# Altium integrated library Altium_WCAP-CSGP (rev19a).IntLib: 938 symbols (part 15 of 16)
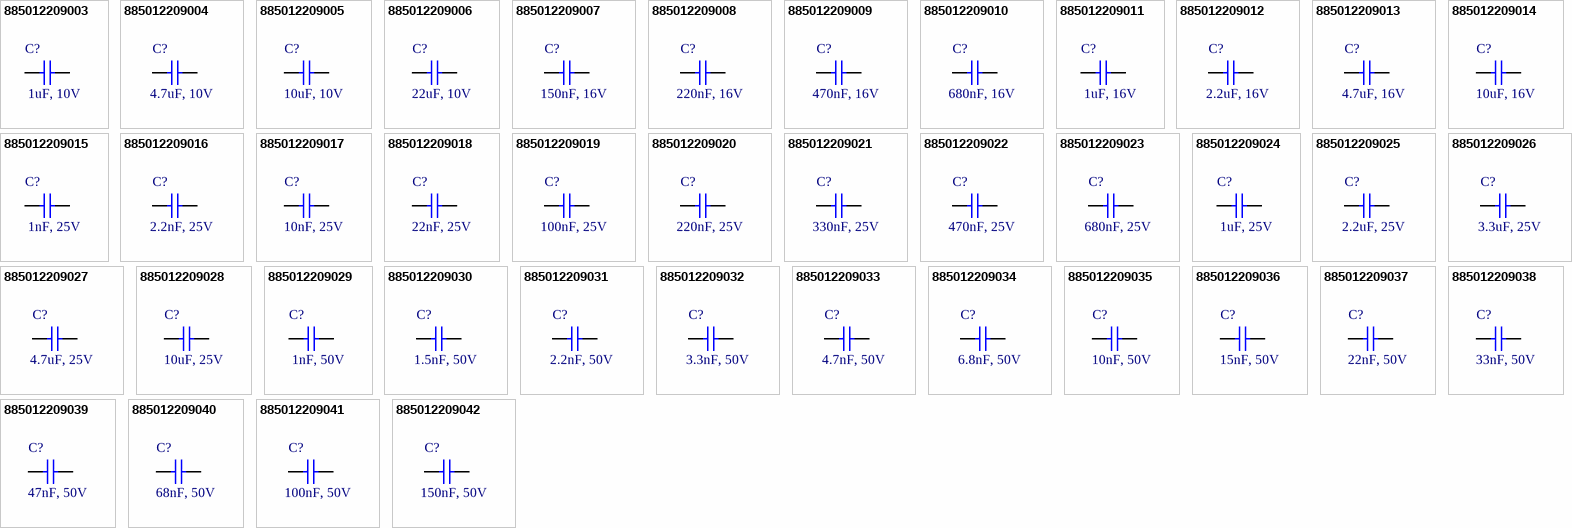
[diagram p41: symbols 885012209003 to 885012209042]

## 885012209025
designator C?, comment 2.2uF, 25V
WCAP-CSGP General Purpose Ceramic Capacitors, size 1210, 2.2uF, +/-10%, 25VDC; Part Number: 885012209025; Isolation Resistance: >=0.2GOhm; Ceramic Type: X7R; Technical Reference: X7R1210225K025DFCT10000; ComponentLink1Description: Manufacturer; ComponentLink1URL: http://www.we-online.de; ComponentLink2Description: Datasheet; ComponentLink2URL: https://katalog.we-online.com/pbs/datasheet/885012209025.pdf; Operating Temperature: -55 to +125degC; Packaging: Tape and Reel; Publisher: Wurth Elektronik; Rated Voltage: 25VDC; Published Date: August 2019; Capacitance Tolerance: +/-10%; Dissipation Factor: =<3.5%; Height: 1.6mm +/-0.20mm; Mounting Technology: SMD; Size: 1210; Capacitance: 2.2uF
footprint WCAP-CSGP_1210_H=1.6mm
pins: 1, 2

## 885012209026
designator C?, comment 3.3uF, 25V
WCAP-CSGP General Purpose Ceramic Capacitors, size 1210, 3.3uF, +/-10%, 25VDC; Part Number: 885012209026; Isolation Resistance: >=0.2GOhm; Ceramic Type: X7R; Technical Reference: X7R1210335K025DFCT10000; ComponentLink1Description: Manufacturer; ComponentLink1URL: http://www.we-online.de; ComponentLink2Description: Datasheet; ComponentLink2URL: https://katalog.we-online.com/pbs/datasheet/885012209026.pdf; Operating Temperature: -55 to +125degC; Packaging: Tape and Reel; Publisher: Wurth Elektronik; Rated Voltage: 25VDC; Published Date: August 2019; Capacitance Tolerance: +/-10%; Dissipation Factor: =<3.5%; Height: 1.6mm +/-0.20mm; Mounting Technology: SMD; Size: 1210; Capacitance: 3.3uF
footprint WCAP-CSGP_1210_H=1.6mm
pins: 1, 2

## 885012209027
designator C?, comment 4.7uF, 25V
WCAP-CSGP General Purpose Ceramic Capacitors, size 1210, 4.7uF, +/-10%, 25VDC; Part Number: 885012209027; Isolation Resistance: >=0.1GOhm; Ceramic Type: X7R; Technical Reference: X7R1210475K025DFCT10000; ComponentLink1Description: Manufacturer; ComponentLink1URL: http://www.we-online.de; ComponentLink2Description: Datasheet; ComponentLink2URL: https://katalog.we-online.com/pbs/datasheet/885012209027.pdf; Operating Temperature: -55 to +125degC; Packaging: Tape and Reel; Publisher: Wurth Elektronik; Rated Voltage: 25VDC; Published Date: August 2019; Capacitance Tolerance: +/-10%; Dissipation Factor: =<3.5%; Height: 2mm +/-0.20mm; Mounting Technology: SMD; Size: 1210; Capacitance: 4.7uF
footprint WCAP-CSGP_1210_H=2mm
pins: 1, 2

## 885012209028
designator C?, comment 10uF, 25V
WCAP-CSGP General Purpose Ceramic Capacitors, size 1210, 10uF, +/-10%, 25VDC; Part Number: 885012209028; Isolation Resistance: >=0.01GOhm; Ceramic Type: X7R; Technical Reference: X7R1210106K025DFCT10000; ComponentLink1Description: Manufacturer; ComponentLink1URL: http://www.we-online.de; ComponentLink2Description: Datasheet; ComponentLink2URL: https://katalog.we-online.com/pbs/datasheet/885012209028.pdf; Operating Temperature: -55 to +125degC; Packaging: Tape and Reel; Publisher: Wurth Elektronik; Rated Voltage: 25VDC; Published Date: August 2019; Capacitance Tolerance: +/-10%; Dissipation Factor: =<5%; Height: 2mm +/-0.20mm; Mounting Technology: SMD; Size: 1210; Capacitance: 10uF
footprint WCAP-CSGP_1210_H=2mm
pins: 1, 2

## 885012209029
designator C?, comment 1nF, 50V
WCAP-CSGP General Purpose Ceramic Capacitors, size 1210, 1nF, +/-10%, 50VDC; Part Number: 885012209029; Isolation Resistance: >=10GOhm; Ceramic Type: X7R; Technical Reference: X7R1210102K050DFCT10000; ComponentLink1Description: Manufacturer; ComponentLink1URL: http://www.we-online.de; ComponentLink2Description: Datasheet; ComponentLink2URL: https://katalog.we-online.com/pbs/datasheet/885012209029.pdf; Operating Temperature: -55 to +125degC; Packaging: Tape and Reel; Publisher: Wurth Elektronik; Rated Voltage: 50VDC; Published Date: August 2019; Capacitance Tolerance: +/-10%; Dissipation Factor: =<2.5%; Height: 0.95mm +/-0.10mm; Mounting Technology: SMD; Size: 1210; Capacitance: 1nF
footprint WCAP-CSGP_1210_H=0.95mm
pins: 1, 2

## 885012209030
designator C?, comment 1.5nF, 50V
WCAP-CSGP General Purpose Ceramic Capacitors, size 1210, 1.5nF, +/-10%, 50VDC; Part Number: 885012209030; Isolation Resistance: >=10GOhm; Ceramic Type: X7R; Technical Reference: X7R1210152K050DFCT10000; ComponentLink1Description: Manufacturer; ComponentLink1URL: http://www.we-online.de; ComponentLink2Description: Datasheet; ComponentLink2URL: https://katalog.we-online.com/pbs/datasheet/885012209030.pdf; Operating Temperature: -55 to +125degC; Packaging: Tape and Reel; Publisher: Wurth Elektronik; Rated Voltage: 50VDC; Published Date: August 2019; Capacitance Tolerance: +/-10%; Dissipation Factor: =<2.5%; Height: 0.95mm +/-0.10mm; Mounting Technology: SMD; Size: 1210; Capacitance: 1.5nF
footprint WCAP-CSGP_1210_H=0.95mm
pins: 1, 2

## 885012209031
designator C?, comment 2.2nF, 50V
WCAP-CSGP General Purpose Ceramic Capacitors, size 1210, 2.2nF, +/-10%, 50VDC; Part Number: 885012209031; Isolation Resistance: >=10GOhm; Ceramic Type: X7R; Technical Reference: X7R1210222K050DFCT10000; ComponentLink1Description: Manufacturer; ComponentLink1URL: http://www.we-online.de; ComponentLink2Description: Datasheet; ComponentLink2URL: https://katalog.we-online.com/pbs/datasheet/885012209031.pdf; Operating Temperature: -55 to +125degC; Packaging: Tape and Reel; Publisher: Wurth Elektronik; Rated Voltage: 50VDC; Published Date: August 2019; Capacitance Tolerance: +/-10%; Dissipation Factor: =<2.5%; Height: 0.95mm +/-0.10mm; Mounting Technology: SMD; Size: 1210; Capacitance: 2.2nF
footprint WCAP-CSGP_1210_H=0.95mm
pins: 1, 2

## 885012209032
designator C?, comment 3.3nF, 50V
WCAP-CSGP General Purpose Ceramic Capacitors, size 1210, 3.3nF, +/-10%, 50VDC; Part Number: 885012209032; Isolation Resistance: >=10GOhm; Ceramic Type: X7R; Technical Reference: X7R1210332K050DFCT10000; ComponentLink1Description: Manufacturer; ComponentLink1URL: http://www.we-online.de; ComponentLink2Description: Datasheet; ComponentLink2URL: https://katalog.we-online.com/pbs/datasheet/885012209032.pdf; Operating Temperature: -55 to +125degC; Packaging: Tape and Reel; Publisher: Wurth Elektronik; Rated Voltage: 50VDC; Published Date: August 2019; Capacitance Tolerance: +/-10%; Dissipation Factor: =<2.5%; Height: 0.95mm +/-0.10mm; Mounting Technology: SMD; Size: 1210; Capacitance: 3.3nF
footprint WCAP-CSGP_1210_H=0.95mm
pins: 1, 2

## 885012209033
designator C?, comment 4.7nF, 50V
WCAP-CSGP General Purpose Ceramic Capacitors, size 1210, 4.7nF, +/-10%, 50VDC; Part Number: 885012209033; Isolation Resistance: >=10GOhm; Ceramic Type: X7R; Technical Reference: X7R1210472K050DFCT10000; ComponentLink1Description: Manufacturer; ComponentLink1URL: http://www.we-online.de; ComponentLink2Description: Datasheet; ComponentLink2URL: https://katalog.we-online.com/pbs/datasheet/885012209033.pdf; Operating Temperature: -55 to +125degC; Packaging: Tape and Reel; Publisher: Wurth Elektronik; Rated Voltage: 50VDC; Published Date: August 2019; Capacitance Tolerance: +/-10%; Dissipation Factor: =<2.5%; Height: 0.95mm +/-0.10mm; Mounting Technology: SMD; Size: 1210; Capacitance: 4.7nF
footprint WCAP-CSGP_1210_H=0.95mm
pins: 1, 2

## 885012209034
designator C?, comment 6.8nF, 50V
WCAP-CSGP General Purpose Ceramic Capacitors, size 1210, 6.8nF, +/-10%, 50VDC; Part Number: 885012209034; Isolation Resistance: >=10GOhm; Ceramic Type: X7R; Technical Reference: X7R1210682K050DFCT10000; ComponentLink1Description: Manufacturer; ComponentLink1URL: http://www.we-online.de; ComponentLink2Description: Datasheet; ComponentLink2URL: https://katalog.we-online.com/pbs/datasheet/885012209034.pdf; Operating Temperature: -55 to +125degC; Packaging: Tape and Reel; Publisher: Wurth Elektronik; Rated Voltage: 50VDC; Published Date: August 2019; Capacitance Tolerance: +/-10%; Dissipation Factor: =<2.5%; Height: 0.95mm +/-0.10mm; Mounting Technology: SMD; Size: 1210; Capacitance: 6.8nF
footprint WCAP-CSGP_1210_H=0.95mm
pins: 1, 2

## 885012209035
designator C?, comment 10nF, 50V
WCAP-CSGP General Purpose Ceramic Capacitors, size 1210, 10nF, +/-10%, 50VDC; Part Number: 885012209035; Isolation Resistance: >=10GOhm; Ceramic Type: X7R; Technical Reference: X7R1210103K050DFCT10000; ComponentLink1Description: Manufacturer; ComponentLink1URL: http://www.we-online.de; ComponentLink2Description: Datasheet; ComponentLink2URL: https://katalog.we-online.com/pbs/datasheet/885012209035.pdf; Operating Temperature: -55 to +125degC; Packaging: Tape and Reel; Publisher: Wurth Elektronik; Rated Voltage: 50VDC; Published Date: August 2019; Capacitance Tolerance: +/-10%; Dissipation Factor: =<2.5%; Height: 0.95mm +/-0.10mm; Mounting Technology: SMD; Size: 1210; Capacitance: 10nF
footprint WCAP-CSGP_1210_H=0.95mm
pins: 1, 2

## 885012209036
designator C?, comment 15nF, 50V
WCAP-CSGP General Purpose Ceramic Capacitors, size 1210, 15nF, +/-10%, 50VDC; Part Number: 885012209036; Isolation Resistance: >=10GOhm; Ceramic Type: X7R; Technical Reference: X7R1210153K050DFCT10000; ComponentLink1Description: Manufacturer; ComponentLink1URL: http://www.we-online.de; ComponentLink2Description: Datasheet; ComponentLink2URL: https://katalog.we-online.com/pbs/datasheet/885012209036.pdf; Operating Temperature: -55 to +125degC; Packaging: Tape and Reel; Publisher: Wurth Elektronik; Rated Voltage: 50VDC; Published Date: August 2019; Capacitance Tolerance: +/-10%; Dissipation Factor: =<2.5%; Height: 0.95mm +/-0.10mm; Mounting Technology: SMD; Size: 1210; Capacitance: 15nF
footprint WCAP-CSGP_1210_H=0.95mm
pins: 1, 2

## 885012209037
designator C?, comment 22nF, 50V
WCAP-CSGP General Purpose Ceramic Capacitors, size 1210, 22nF, +/-10%, 50VDC; Part Number: 885012209037; Isolation Resistance: >=10GOhm; Ceramic Type: X7R; Technical Reference: X7R1210223K050DFCT10000; ComponentLink1Description: Manufacturer; ComponentLink1URL: http://www.we-online.de; ComponentLink2Description: Datasheet; ComponentLink2URL: https://katalog.we-online.com/pbs/datasheet/885012209037.pdf; Operating Temperature: -55 to +125degC; Packaging: Tape and Reel; Publisher: Wurth Elektronik; Rated Voltage: 50VDC; Published Date: August 2019; Capacitance Tolerance: +/-10%; Dissipation Factor: =<2.5%; Height: 0.95mm +/-0.10mm; Mounting Technology: SMD; Size: 1210; Capacitance: 22nF
footprint WCAP-CSGP_1210_H=0.95mm
pins: 1, 2

## 885012209038
designator C?, comment 33nF, 50V
WCAP-CSGP General Purpose Ceramic Capacitors, size 1210, 33nF, +/-10%, 50VDC; Part Number: 885012209038; Isolation Resistance: >=10GOhm; Ceramic Type: X7R; Technical Reference: X7R1210333K050DFCT10000; ComponentLink1Description: Manufacturer; ComponentLink1URL: http://www.we-online.de; ComponentLink2Description: Datasheet; ComponentLink2URL: https://katalog.we-online.com/pbs/datasheet/885012209038.pdf; Operating Temperature: -55 to +125degC; Packaging: Tape and Reel; Publisher: Wurth Elektronik; Rated Voltage: 50VDC; Published Date: August 2019; Capacitance Tolerance: +/-10%; Dissipation Factor: =<2.5%; Height: 0.95mm +/-0.10mm; Mounting Technology: SMD; Size: 1210; Capacitance: 33nF
footprint WCAP-CSGP_1210_H=0.95mm
pins: 1, 2

## 885012209039
designator C?, comment 47nF, 50V
WCAP-CSGP General Purpose Ceramic Capacitors, size 1210, 47nF, +/-10%, 50VDC; Part Number: 885012209039; Isolation Resistance: >=10GOhm; Ceramic Type: X7R; Technical Reference: X7R1210473K050DFCT10000; ComponentLink1Description: Manufacturer; ComponentLink1URL: http://www.we-online.de; ComponentLink2Description: Datasheet; ComponentLink2URL: https://katalog.we-online.com/pbs/datasheet/885012209039.pdf; Operating Temperature: -55 to +125degC; Packaging: Tape and Reel; Publisher: Wurth Elektronik; Rated Voltage: 50VDC; Published Date: August 2019; Capacitance Tolerance: +/-10%; Dissipation Factor: =<2.5%; Height: 0.95mm +/-0.10mm; Mounting Technology: SMD; Size: 1210; Capacitance: 47nF
footprint WCAP-CSGP_1210_H=0.95mm
pins: 1, 2

## 885012209040
designator C?, comment 68nF, 50V
WCAP-CSGP General Purpose Ceramic Capacitors, size 1210, 68nF, +/-10%, 50VDC; Part Number: 885012209040; Isolation Resistance: >=7.4GOhm; Ceramic Type: X7R; Technical Reference: X7R1210683K050DFCT10000; ComponentLink1Description: Manufacturer; ComponentLink1URL: http://www.we-online.de; ComponentLink2Description: Datasheet; ComponentLink2URL: https://katalog.we-online.com/pbs/datasheet/885012209040.pdf; Operating Temperature: -55 to +125degC; Packaging: Tape and Reel; Publisher: Wurth Elektronik; Rated Voltage: 50VDC; Published Date: August 2019; Capacitance Tolerance: +/-10%; Dissipation Factor: =<2.5%; Height: 0.95mm +/-0.10mm; Mounting Technology: SMD; Size: 1210; Capacitance: 68nF
footprint WCAP-CSGP_1210_H=0.95mm
pins: 1, 2

## 885012209041
designator C?, comment 100nF, 50V
WCAP-CSGP General Purpose Ceramic Capacitors, size 1210, 100nF, +/-10%, 50VDC; Part Number: 885012209041; Isolation Resistance: >=5GOhm; Ceramic Type: X7R; Technical Reference: X7R1210104K050DFCT10000; ComponentLink1Description: Manufacturer; ComponentLink1URL: http://www.we-online.de; ComponentLink2Description: Datasheet; ComponentLink2URL: https://katalog.we-online.com/pbs/datasheet/885012209041.pdf; Operating Temperature: -55 to +125degC; Packaging: Tape and Reel; Publisher: Wurth Elektronik; Rated Voltage: 50VDC; Published Date: August 2019; Capacitance Tolerance: +/-10%; Dissipation Factor: =<2.5%; Height: 0.95mm +/-0.10mm; Mounting Technology: SMD; Size: 1210; Capacitance: 100nF
footprint WCAP-CSGP_1210_H=0.95mm
pins: 1, 2

## 885012209042
designator C?, comment 150nF, 50V
WCAP-CSGP General Purpose Ceramic Capacitors, size 1210, 150nF, +/-10%, 50VDC; Part Number: 885012209042; Isolation Resistance: >=3.3GOhm; Ceramic Type: X7R; Technical Reference: X7R1210154K050DFCT10000; ComponentLink1Description: Manufacturer; ComponentLink1URL: http://www.we-online.de; ComponentLink2Description: Datasheet; ComponentLink2URL: https://katalog.we-online.com/pbs/datasheet/885012209042.pdf; Operating Temperature: -55 to +125degC; Packaging: Tape and Reel; Publisher: Wurth Elektronik; Rated Voltage: 50VDC; Published Date: August 2019; Capacitance Tolerance: +/-10%; Dissipation Factor: =<2.5%; Height: 0.95mm +/-0.10mm; Mounting Technology: SMD; Size: 1210; Capacitance: 150nF
footprint WCAP-CSGP_1210_H=0.95mm
pins: 1, 2

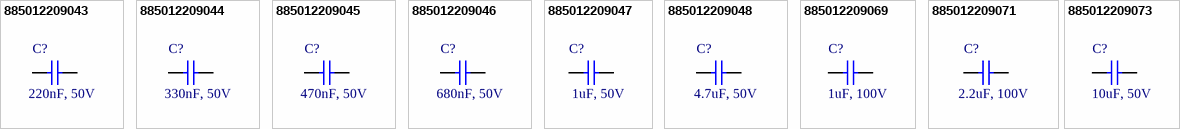
[diagram p25: symbols 885012209043 to 885012209073]

## 885012209043
designator C?, comment 220nF, 50V
WCAP-CSGP General Purpose Ceramic Capacitors, size 1210, 220nF, +/-10%, 50VDC; Part Number: 885012209043; Isolation Resistance: >=2.3GOhm; Ceramic Type: X7R; Technical Reference: X7R1210224K050DFCT10000; ComponentLink1Description: Manufacturer; ComponentLink1URL: http://www.we-online.de; ComponentLink2Description: Datasheet; ComponentLink2URL: https://katalog.we-online.com/pbs/datasheet/885012209043.pdf; Operating Temperature: -55 to +125degC; Packaging: Tape and Reel; Publisher: Wurth Elektronik; Rated Voltage: 50VDC; Published Date: August 2019; Capacitance Tolerance: +/-10%; Dissipation Factor: =<2.5%; Height: 0.95mm +/-0.10mm; Mounting Technology: SMD; Size: 1210; Capacitance: 220nF
footprint WCAP-CSGP_1210_H=0.95mm
pins: 1, 2

## 885012209044
designator C?, comment 330nF, 50V
WCAP-CSGP General Purpose Ceramic Capacitors, size 1210, 330nF, +/-10%, 50VDC; Part Number: 885012209044; Isolation Resistance: >=1.5GOhm; Ceramic Type: X7R; Technical Reference: X7R1210334K050DFCT10000; ComponentLink1Description: Manufacturer; ComponentLink1URL: http://www.we-online.de; ComponentLink2Description: Datasheet; ComponentLink2URL: https://katalog.we-online.com/pbs/datasheet/885012209044.pdf; Operating Temperature: -55 to +125degC; Packaging: Tape and Reel; Publisher: Wurth Elektronik; Rated Voltage: 50VDC; Published Date: August 2019; Capacitance Tolerance: +/-10%; Dissipation Factor: =<2.5%; Height: 1.25mm +/-0.10mm; Mounting Technology: SMD; Size: 1210; Capacitance: 330nF
footprint WCAP-CSGP_1210_H=1.25mm
pins: 1, 2

## 885012209045
designator C?, comment 470nF, 50V
WCAP-CSGP General Purpose Ceramic Capacitors, size 1210, 470nF, +/-10%, 50VDC; Part Number: 885012209045; Isolation Resistance: >=1.1GOhm; Ceramic Type: X7R; Technical Reference: X7R1210474K050DFCT10000; ComponentLink1Description: Manufacturer; ComponentLink1URL: http://www.we-online.de; ComponentLink2Description: Datasheet; ComponentLink2URL: https://katalog.we-online.com/pbs/datasheet/885012209045.pdf; Operating Temperature: -55 to +125degC; Packaging: Tape and Reel; Publisher: Wurth Elektronik; Rated Voltage: 50VDC; Published Date: August 2019; Capacitance Tolerance: +/-10%; Dissipation Factor: =<2.5%; Height: 1.25mm +/-0.10mm; Mounting Technology: SMD; Size: 1210; Capacitance: 470nF
footprint WCAP-CSGP_1210_H=1.25mm
pins: 1, 2

## 885012209046
designator C?, comment 680nF, 50V
WCAP-CSGP General Purpose Ceramic Capacitors, size 1210, 680nF, +/-10%, 50VDC; Part Number: 885012209046; Isolation Resistance: >=0.7GOhm; Ceramic Type: X7R; Technical Reference: X7R1210684K050DFCT10000; ComponentLink1Description: Manufacturer; ComponentLink1URL: http://www.we-online.de; ComponentLink2Description: Datasheet; ComponentLink2URL: https://katalog.we-online.com/pbs/datasheet/885012209046.pdf; Operating Temperature: -55 to +125degC; Packaging: Tape and Reel; Publisher: Wurth Elektronik; Rated Voltage: 50VDC; Published Date: August 2019; Capacitance Tolerance: +/-10%; Dissipation Factor: =<2.5%; Height: 1.25mm +/-0.10mm; Mounting Technology: SMD; Size: 1210; Capacitance: 680nF
footprint WCAP-CSGP_1210_H=1.25mm
pins: 1, 2

## 885012209047
designator C?, comment 1uF, 50V
WCAP-CSGP General Purpose Ceramic Capacitors, size 1210, 1uF, +/-10%, 50VDC; Part Number: 885012209047; Isolation Resistance: >=0.5GOhm; Ceramic Type: X7R; Technical Reference: X7R1210105K050DFCT10000; ComponentLink1Description: Manufacturer; ComponentLink1URL: http://www.we-online.de; ComponentLink2Description: Datasheet; ComponentLink2URL: https://katalog.we-online.com/pbs/datasheet/885012209047.pdf; Operating Temperature: -55 to +125degC; Packaging: Tape and Reel; Publisher: Wurth Elektronik; Rated Voltage: 50VDC; Published Date: August 2019; Capacitance Tolerance: +/-10%; Dissipation Factor: =<2.5%; Height: 1.25mm +/-0.10mm; Mounting Technology: SMD; Size: 1210; Capacitance: 1uF
footprint WCAP-CSGP_1210_H=1.25mm
pins: 1, 2

## 885012209048
designator C?, comment 4.7uF, 50V
WCAP-CSGP General Purpose Ceramic Capacitors, size 1210, 4.7uF, +/-10%, 50VDC; Part Number: 885012209048; Isolation Resistance: >=0.02GOhm; Ceramic Type: X7R; Technical Reference: X7R1210475K050DFCT10000; ComponentLink1Description: Manufacturer; ComponentLink1URL: http://www.we-online.de; ComponentLink2Description: Datasheet; ComponentLink2URL: https://katalog.we-online.com/pbs/datasheet/885012209048.pdf; Operating Temperature: -55 to +125degC; Packaging: Tape and Reel; Publisher: Wurth Elektronik; Rated Voltage: 50VDC; Published Date: August 2019; Capacitance Tolerance: +/-10%; Dissipation Factor: =<5%; Height: 2.5mm +/-0.20mm; Mounting Technology: SMD; Size: 1210; Capacitance: 4.7uF
footprint WCAP-CSGP_1210_H=2.5mm
pins: 1, 2

## 885012209069
designator C?, comment 1uF, 100V
WCAP-CSGP General Purpose Ceramic Capacitors, size 1210, 1uF, +/-10%, 100VDC; Part Number: 885012209069; Isolation Resistance: >=0.1GOhm; Ceramic Type: X7R; Technical Reference: X7R1210105K100DFCT10000; ComponentLink1Description: Manufacturer; ComponentLink1URL: http://www.we-online.de; ComponentLink2Description: Datasheet; ComponentLink2URL: https://katalog.we-online.com/pbs/datasheet/885012209069.pdf; Operating Temperature: -55 to +125degC; Packaging: Tape and Reel; Publisher: Wurth Elektronik; Rated Voltage: 100VDC; Published Date: August 2019; Capacitance Tolerance: +/-10%; Dissipation Factor: =<2.5%; Height: 2mm +/-0.20mm; Mounting Technology: SMD; Size: 1210; Capacitance: 1uF
footprint WCAP-CSGP_1210_H=2mm
pins: 1, 2

## 885012209071
designator C?, comment 2.2uF, 100V
WCAP-CSGP General Purpose Ceramic Capacitors, size 1210, 2.2uF, +/-10%, 100VDC; Part Number: 885012209071; Isolation Resistance: >=0.05GOhm; Ceramic Type: X7R; Technical Reference: X7R1210225K100DFCT10000; ComponentLink1Description: Manufacturer; ComponentLink1URL: http://www.we-online.de; ComponentLink2Description: Datasheet; ComponentLink2URL: https://katalog.we-online.com/pbs/datasheet/885012209071.pdf; Operating Temperature: -55 to +125degC; Packaging: Tape and Reel; Publisher: Wurth Elektronik; Rated Voltage: 100VDC; Published Date: August 2019; Capacitance Tolerance: +/-10%; Dissipation Factor: =<5%; Height: 2.5mm +/-0.30mm; Mounting Technology: SMD; Size: 1210; Capacitance: 2.2uF
footprint WCAP-CSGP_1210_H=2.5mm
pins: 1, 2

## 885012209073
designator C?, comment 10uF, 50V
WCAP-CSGP General Purpose Ceramic Capacitors, size 1210, 10uF, +/-10%, 50VDC; Part Number: 885012209073; Isolation Resistance: >=0.01GOhm; Ceramic Type: X7R; Technical Reference: X7R1210106K050DFCT10000; ComponentLink1Description: Manufacturer; ComponentLink1URL: http://www.we-online.de; ComponentLink2Description: Datasheet; ComponentLink2URL: https://katalog.we-online.com/pbs/datasheet/885012209073.pdf; Operating Temperature: -55 to +125degC; Packaging: Tape and Reel; Publisher: Wurth Elektronik; Rated Voltage: 50VDC; Published Date: August 2019; Capacitance Tolerance: +/-10%; Dissipation Factor: =<10%; Height: 2.5mm +/-0.30mm; Mounting Technology: SMD; Size: 1210; Capacitance: 10uF
footprint WCAP-CSGP_1210_H=2.5mm
pins: 1, 2


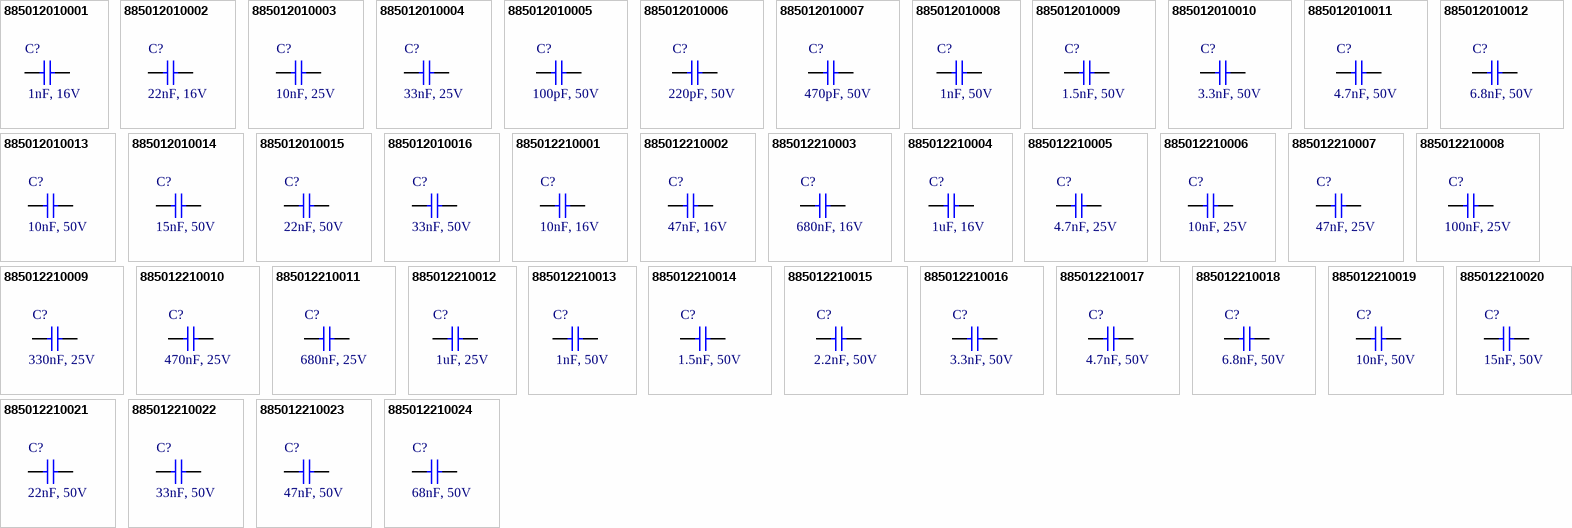
[diagram p26: symbols 885012010001 to 885012210024]

## 885012010001
designator C?, comment 1nF, 16V
WCAP-CSGP General Purpose Ceramic Capacitors, size 1812, 1nF, +/-5%, 16VDC; Part Number: 885012010001; Isolation Resistance: >=10GOhm; Ceramic Type: NP0; Dissipation Factor: Q>=1000; Technical Reference: NP01812102J016DFCT10000; ComponentLink1Description: Manufacturer; ComponentLink1URL: http://www.we-online.de; ComponentLink2Description: Datasheet; ComponentLink2URL: https://katalog.we-online.com/pbs/datasheet/885012010001.pdf; Operating Temperature: -55 to +125degC; Packaging: Tape and Reel; Publisher: Wurth Elektronik; Rated Voltage: 16VDC; Published Date: August 2019; Capacitance Tolerance: +/-5%; Height: 1.25mm +/-0.10mm; Mounting Technology: SMD; Size: 1812; Capacitance: 1nF
footprint WCAP-CSGP_1812_H=1.25mm
pins: 1, 2

## 885012010002
designator C?, comment 22nF, 16V
WCAP-CSGP General Purpose Ceramic Capacitors, size 1812, 22nF, +/-5%, 16VDC; Part Number: 885012010002; Isolation Resistance: >=10GOhm; Ceramic Type: NP0; Dissipation Factor: Q>=1000; Technical Reference: NP01812223J016DFCT10000; ComponentLink1Description: Manufacturer; ComponentLink1URL: http://www.we-online.de; ComponentLink2Description: Datasheet; ComponentLink2URL: https://katalog.we-online.com/pbs/datasheet/885012010002.pdf; Operating Temperature: -55 to +125degC; Packaging: Tape and Reel; Publisher: Wurth Elektronik; Rated Voltage: 16VDC; Published Date: August 2019; Capacitance Tolerance: +/-5%; Height: 1.25mm +/-0.10mm; Mounting Technology: SMD; Size: 1812; Capacitance: 22nF
footprint WCAP-CSGP_1812_H=1.25mm
pins: 1, 2

## 885012010003
designator C?, comment 10nF, 25V
WCAP-CSGP General Purpose Ceramic Capacitors, size 1812, 10nF, +/-5%, 25VDC; Part Number: 885012010003; Isolation Resistance: >=10GOhm; Ceramic Type: NP0; Dissipation Factor: Q>=1000; Technical Reference: NP01812103J025DFCT10000; ComponentLink1Description: Manufacturer; ComponentLink1URL: http://www.we-online.de; ComponentLink2Description: Datasheet; ComponentLink2URL: https://katalog.we-online.com/pbs/datasheet/885012010003.pdf; Operating Temperature: -55 to +125degC; Packaging: Tape and Reel; Publisher: Wurth Elektronik; Rated Voltage: 25VDC; Published Date: August 2019; Capacitance Tolerance: +/-5%; Height: 1.25mm +/-0.10mm; Mounting Technology: SMD; Size: 1812; Capacitance: 10nF
footprint WCAP-CSGP_1812_H=1.25mm
pins: 1, 2

## 885012010004
designator C?, comment 33nF, 25V
WCAP-CSGP General Purpose Ceramic Capacitors, size 1812, 33nF, +/-5%, 25VDC; Part Number: 885012010004; Isolation Resistance: >=10GOhm; Ceramic Type: NP0; Dissipation Factor: Q>=1000; Technical Reference: NP01812333J025DFCT10000; ComponentLink1Description: Manufacturer; ComponentLink1URL: http://www.we-online.de; ComponentLink2Description: Datasheet; ComponentLink2URL: https://katalog.we-online.com/pbs/datasheet/885012010004.pdf; Operating Temperature: -55 to +125degC; Packaging: Tape and Reel; Publisher: Wurth Elektronik; Rated Voltage: 25VDC; Published Date: August 2019; Capacitance Tolerance: +/-5%; Height: 1.25mm +/-0.10mm; Mounting Technology: SMD; Size: 1812; Capacitance: 33nF
footprint WCAP-CSGP_1812_H=1.25mm
pins: 1, 2

## 885012010005
designator C?, comment 100pF, 50V
WCAP-CSGP General Purpose Ceramic Capacitors, size 1812, 100pF, +/-5%, 50VDC; Part Number: 885012010005; Isolation Resistance: >=10GOhm; Ceramic Type: NP0; Dissipation Factor: Q>=1000; Technical Reference: NP01812101J050DFCT10000; ComponentLink1Description: Manufacturer; ComponentLink1URL: http://www.we-online.de; ComponentLink2Description: Datasheet; ComponentLink2URL: https://katalog.we-online.com/pbs/datasheet/885012010005.pdf; Operating Temperature: -55 to +125degC; Packaging: Tape and Reel; Publisher: Wurth Elektronik; Rated Voltage: 50VDC; Published Date: August 2019; Capacitance Tolerance: +/-5%; Height: 1.25mm +/-0.10mm; Mounting Technology: SMD; Size: 1812; Capacitance: 100pF
footprint WCAP-CSGP_1812_H=1.25mm
pins: 1, 2

## 885012010006
designator C?, comment 220pF, 50V
WCAP-CSGP General Purpose Ceramic Capacitors, size 1812, 220pF, +/-5%, 50VDC; Part Number: 885012010006; Isolation Resistance: >=10GOhm; Ceramic Type: NP0; Dissipation Factor: Q>=1000; Technical Reference: NP01812221J050DFCT10000; ComponentLink1Description: Manufacturer; ComponentLink1URL: http://www.we-online.de; ComponentLink2Description: Datasheet; ComponentLink2URL: https://katalog.we-online.com/pbs/datasheet/885012010006.pdf; Operating Temperature: -55 to +125degC; Packaging: Tape and Reel; Publisher: Wurth Elektronik; Rated Voltage: 50VDC; Published Date: August 2019; Capacitance Tolerance: +/-5%; Height: 1.25mm +/-0.10mm; Mounting Technology: SMD; Size: 1812; Capacitance: 220pF
footprint WCAP-CSGP_1812_H=1.25mm
pins: 1, 2

## 885012010007
designator C?, comment 470pF, 50V
WCAP-CSGP General Purpose Ceramic Capacitors, size 1812, 470pF, +/-5%, 50VDC; Part Number: 885012010007; Isolation Resistance: >=10GOhm; Ceramic Type: NP0; Dissipation Factor: Q>=1000; Technical Reference: NP01812471J050DFCT10000; ComponentLink1Description: Manufacturer; ComponentLink1URL: http://www.we-online.de; ComponentLink2Description: Datasheet; ComponentLink2URL: https://katalog.we-online.com/pbs/datasheet/885012010007.pdf; Operating Temperature: -55 to +125degC; Packaging: Tape and Reel; Publisher: Wurth Elektronik; Rated Voltage: 50VDC; Published Date: August 2019; Capacitance Tolerance: +/-5%; Height: 1.25mm +/-0.10mm; Mounting Technology: SMD; Size: 1812; Capacitance: 470pF
footprint WCAP-CSGP_1812_H=1.25mm
pins: 1, 2

## 885012010008
designator C?, comment 1nF, 50V
WCAP-CSGP General Purpose Ceramic Capacitors, size 1812, 1nF, +/-5%, 50VDC; Part Number: 885012010008; Isolation Resistance: >=10GOhm; Ceramic Type: NP0; Dissipation Factor: Q>=1000; Technical Reference: NP01812102J050DFCT10000; ComponentLink1Description: Manufacturer; ComponentLink1URL: http://www.we-online.de; ComponentLink2Description: Datasheet; ComponentLink2URL: https://katalog.we-online.com/pbs/datasheet/885012010008.pdf; Operating Temperature: -55 to +125degC; Packaging: Tape and Reel; Publisher: Wurth Elektronik; Rated Voltage: 50VDC; Published Date: August 2019; Capacitance Tolerance: +/-5%; Height: 1.25mm +/-0.10mm; Mounting Technology: SMD; Size: 1812; Capacitance: 1nF
footprint WCAP-CSGP_1812_H=1.25mm
pins: 1, 2

## 885012010009
designator C?, comment 1.5nF, 50V
WCAP-CSGP General Purpose Ceramic Capacitors, size 1812, 1.5nF, +/-5%, 50VDC; Part Number: 885012010009; Isolation Resistance: >=10GOhm; Ceramic Type: NP0; Dissipation Factor: Q>=1000; Technical Reference: NP01812152J050DFCT10000; ComponentLink1Description: Manufacturer; ComponentLink1URL: http://www.we-online.de; ComponentLink2Description: Datasheet; ComponentLink2URL: https://katalog.we-online.com/pbs/datasheet/885012010009.pdf; Operating Temperature: -55 to +125degC; Packaging: Tape and Reel; Publisher: Wurth Elektronik; Rated Voltage: 50VDC; Published Date: August 2019; Capacitance Tolerance: +/-5%; Height: 1.25mm +/-0.10mm; Mounting Technology: SMD; Size: 1812; Capacitance: 1.5nF
footprint WCAP-CSGP_1812_H=1.25mm
pins: 1, 2

## 885012010010
designator C?, comment 3.3nF, 50V
WCAP-CSGP General Purpose Ceramic Capacitors, size 1812, 3.3nF, +/-5%, 50VDC; Part Number: 885012010010; Isolation Resistance: >=10GOhm; Ceramic Type: NP0; Dissipation Factor: Q>=1000; Technical Reference: NP01812332J050DFCT10000; ComponentLink1Description: Manufacturer; ComponentLink1URL: http://www.we-online.de; ComponentLink2Description: Datasheet; ComponentLink2URL: https://katalog.we-online.com/pbs/datasheet/885012010010.pdf; Operating Temperature: -55 to +125degC; Packaging: Tape and Reel; Publisher: Wurth Elektronik; Rated Voltage: 50VDC; Published Date: August 2019; Capacitance Tolerance: +/-5%; Height: 1.25mm +/-0.10mm; Mounting Technology: SMD; Size: 1812; Capacitance: 3.3nF
footprint WCAP-CSGP_1812_H=1.25mm
pins: 1, 2

## 885012010011
designator C?, comment 4.7nF, 50V
WCAP-CSGP General Purpose Ceramic Capacitors, size 1812, 4.7nF, +/-5%, 50VDC; Part Number: 885012010011; Isolation Resistance: >=10GOhm; Ceramic Type: NP0; Dissipation Factor: Q>=1000; Technical Reference: NP01812472J050DFCT10000; ComponentLink1Description: Manufacturer; ComponentLink1URL: http://www.we-online.de; ComponentLink2Description: Datasheet; ComponentLink2URL: https://katalog.we-online.com/pbs/datasheet/885012010011.pdf; Operating Temperature: -55 to +125degC; Packaging: Tape and Reel; Publisher: Wurth Elektronik; Rated Voltage: 50VDC; Published Date: August 2019; Capacitance Tolerance: +/-5%; Height: 1.25mm +/-0.10mm; Mounting Technology: SMD; Size: 1812; Capacitance: 4.7nF
footprint WCAP-CSGP_1812_H=1.25mm
pins: 1, 2

## 885012010012
designator C?, comment 6.8nF, 50V
WCAP-CSGP General Purpose Ceramic Capacitors, size 1812, 6.8nF, +/-5%, 50VDC; Part Number: 885012010012; Isolation Resistance: >=10GOhm; Ceramic Type: NP0; Dissipation Factor: Q>=1000; Technical Reference: NP01812682J050DFCT10000; ComponentLink1Description: Manufacturer; ComponentLink1URL: http://www.we-online.de; ComponentLink2Description: Datasheet; ComponentLink2URL: https://katalog.we-online.com/pbs/datasheet/885012010012.pdf; Operating Temperature: -55 to +125degC; Packaging: Tape and Reel; Publisher: Wurth Elektronik; Rated Voltage: 50VDC; Published Date: August 2019; Capacitance Tolerance: +/-5%; Height: 1.25mm +/-0.10mm; Mounting Technology: SMD; Size: 1812; Capacitance: 6.8nF
footprint WCAP-CSGP_1812_H=1.25mm
pins: 1, 2

## 885012010013
designator C?, comment 10nF, 50V
WCAP-CSGP General Purpose Ceramic Capacitors, size 1812, 10nF, +/-5%, 50VDC; Part Number: 885012010013; Isolation Resistance: >=10GOhm; Ceramic Type: NP0; Dissipation Factor: Q>=1000; Technical Reference: NP01812103J050DFCT10000; ComponentLink1Description: Manufacturer; ComponentLink1URL: http://www.we-online.de; ComponentLink2Description: Datasheet; ComponentLink2URL: https://katalog.we-online.com/pbs/datasheet/885012010013.pdf; Operating Temperature: -55 to +125degC; Packaging: Tape and Reel; Publisher: Wurth Elektronik; Rated Voltage: 50VDC; Published Date: August 2019; Capacitance Tolerance: +/-5%; Height: 1.25mm +/-0.10mm; Mounting Technology: SMD; Size: 1812; Capacitance: 10nF
footprint WCAP-CSGP_1812_H=1.25mm
pins: 1, 2

## 885012010014
designator C?, comment 15nF, 50V
WCAP-CSGP General Purpose Ceramic Capacitors, size 1812, 15nF, +/-5%, 50VDC; Part Number: 885012010014; Isolation Resistance: >=10GOhm; Ceramic Type: NP0; Dissipation Factor: Q>=1000; Technical Reference: NP01812153J050DFCT10000; ComponentLink1Description: Manufacturer; ComponentLink1URL: http://www.we-online.de; ComponentLink2Description: Datasheet; ComponentLink2URL: https://katalog.we-online.com/pbs/datasheet/885012010014.pdf; Operating Temperature: -55 to +125degC; Packaging: Tape and Reel; Publisher: Wurth Elektronik; Rated Voltage: 50VDC; Published Date: August 2019; Capacitance Tolerance: +/-5%; Height: 1.25mm +/-0.10mm; Mounting Technology: SMD; Size: 1812; Capacitance: 15nF
footprint WCAP-CSGP_1812_H=1.25mm
pins: 1, 2

## 885012010015
designator C?, comment 22nF, 50V
WCAP-CSGP General Purpose Ceramic Capacitors, size 1812, 22nF, +/-5%, 50VDC; Part Number: 885012010015; Isolation Resistance: >=10GOhm; Ceramic Type: NP0; Dissipation Factor: Q>=1000; Technical Reference: NP01812223J050DFCT10000; ComponentLink1Description: Manufacturer; ComponentLink1URL: http://www.we-online.de; ComponentLink2Description: Datasheet; ComponentLink2URL: https://katalog.we-online.com/pbs/datasheet/885012010015.pdf; Operating Temperature: -55 to +125degC; Packaging: Tape and Reel; Publisher: Wurth Elektronik; Rated Voltage: 50VDC; Published Date: August 2019; Capacitance Tolerance: +/-5%; Height: 1.25mm +/-0.10mm; Mounting Technology: SMD; Size: 1812; Capacitance: 22nF
footprint WCAP-CSGP_1812_H=1.25mm
pins: 1, 2

## 885012010016
designator C?, comment 33nF, 50V
WCAP-CSGP General Purpose Ceramic Capacitors, size 1812, 33nF, +/-5%, 50VDC; Part Number: 885012010016; Isolation Resistance: >=10GOhm; Ceramic Type: NP0; Dissipation Factor: Q>=1000; Technical Reference: NP01812333J050DFCT10000; ComponentLink1Description: Manufacturer; ComponentLink1URL: http://www.we-online.de; ComponentLink2Description: Datasheet; ComponentLink2URL: https://katalog.we-online.com/pbs/datasheet/885012010016.pdf; Operating Temperature: -55 to +125degC; Packaging: Tape and Reel; Publisher: Wurth Elektronik; Rated Voltage: 50VDC; Published Date: August 2019; Capacitance Tolerance: +/-5%; Height: 1.25mm +/-0.10mm; Mounting Technology: SMD; Size: 1812; Capacitance: 33nF
footprint WCAP-CSGP_1812_H=1.25mm
pins: 1, 2

## 885012210001
designator C?, comment 10nF, 16V
WCAP-CSGP General Purpose Ceramic Capacitors, size 1812, 10nF, +/-10%, 16VDC; Part Number: 885012210001; Isolation Resistance: >=10GOhm; Ceramic Type: X7R; Technical Reference: X7R1812103K016DFCT10000; ComponentLink1Description: Manufacturer; ComponentLink1URL: http://www.we-online.de; ComponentLink2Description: Datasheet; ComponentLink2URL: https://katalog.we-online.com/pbs/datasheet/885012210001.pdf; Operating Temperature: -55 to +125degC; Packaging: Tape and Reel; Publisher: Wurth Elektronik; Rated Voltage: 16VDC; Published Date: August 2019; Capacitance Tolerance: +/-10%; Dissipation Factor: =<3.5%; Height: 1.25mm +/-0.10mm; Mounting Technology: SMD; Size: 1812; Capacitance: 10nF
footprint WCAP-CSGP_1812_H=1.25mm
pins: 1, 2

## 885012210002
designator C?, comment 47nF, 16V
WCAP-CSGP General Purpose Ceramic Capacitors, size 1812, 47nF, +/-10%, 16VDC; Part Number: 885012210002; Isolation Resistance: >=10GOhm; Ceramic Type: X7R; Technical Reference: X7R1812473K016DFCT10000; ComponentLink1Description: Manufacturer; ComponentLink1URL: http://www.we-online.de; ComponentLink2Description: Datasheet; ComponentLink2URL: https://katalog.we-online.com/pbs/datasheet/885012210002.pdf; Operating Temperature: -55 to +125degC; Packaging: Tape and Reel; Publisher: Wurth Elektronik; Rated Voltage: 16VDC; Published Date: August 2019; Capacitance Tolerance: +/-10%; Dissipation Factor: =<3.5%; Height: 1.25mm +/-0.10mm; Mounting Technology: SMD; Size: 1812; Capacitance: 47nF
footprint WCAP-CSGP_1812_H=1.25mm
pins: 1, 2

## 885012210003
designator C?, comment 680nF, 16V
WCAP-CSGP General Purpose Ceramic Capacitors, size 1812, 680nF, +/-10%, 16VDC; Part Number: 885012210003; Isolation Resistance: >=0.7GOhm; Ceramic Type: X7R; Technical Reference: X7R1812684K016DFCT10000; ComponentLink1Description: Manufacturer; ComponentLink1URL: http://www.we-online.de; ComponentLink2Description: Datasheet; ComponentLink2URL: https://katalog.we-online.com/pbs/datasheet/885012210003.pdf; Operating Temperature: -55 to +125degC; Packaging: Tape and Reel; Publisher: Wurth Elektronik; Rated Voltage: 16VDC; Published Date: August 2019; Capacitance Tolerance: +/-10%; Dissipation Factor: =<3.5%; Height: 1.25mm +/-0.10mm; Mounting Technology: SMD; Size: 1812; Capacitance: 680nF
footprint WCAP-CSGP_1812_H=1.25mm
pins: 1, 2

## 885012210004
designator C?, comment 1uF, 16V
WCAP-CSGP General Purpose Ceramic Capacitors, size 1812, 1uF, +/-10%, 16VDC; Part Number: 885012210004; Isolation Resistance: >=0.5GOhm; Ceramic Type: X7R; Technical Reference: X7R1812105K016DFCT10000; ComponentLink1Description: Manufacturer; ComponentLink1URL: http://www.we-online.de; ComponentLink2Description: Datasheet; ComponentLink2URL: https://katalog.we-online.com/pbs/datasheet/885012210004.pdf; Operating Temperature: -55 to +125degC; Packaging: Tape and Reel; Publisher: Wurth Elektronik; Rated Voltage: 16VDC; Published Date: August 2019; Capacitance Tolerance: +/-10%; Dissipation Factor: =<3.5%; Height: 1.25mm +/-0.10mm; Mounting Technology: SMD; Size: 1812; Capacitance: 1uF
footprint WCAP-CSGP_1812_H=1.25mm
pins: 1, 2

## 885012210005
designator C?, comment 4.7nF, 25V
WCAP-CSGP General Purpose Ceramic Capacitors, size 1812, 4.7nF, +/-10%, 25VDC; Part Number: 885012210005; Isolation Resistance: >=10GOhm; Ceramic Type: X7R; Technical Reference: X7R1812472K025DFCT10000; ComponentLink1Description: Manufacturer; ComponentLink1URL: http://www.we-online.de; ComponentLink2Description: Datasheet; ComponentLink2URL: https://katalog.we-online.com/pbs/datasheet/885012210005.pdf; Operating Temperature: -55 to +125degC; Packaging: Tape and Reel; Publisher: Wurth Elektronik; Rated Voltage: 25VDC; Published Date: August 2019; Capacitance Tolerance: +/-10%; Dissipation Factor: =<3.5%; Height: 1.25mm +/-0.10mm; Mounting Technology: SMD; Size: 1812; Capacitance: 4.7nF
footprint WCAP-CSGP_1812_H=1.25mm
pins: 1, 2

## 885012210006
designator C?, comment 10nF, 25V
WCAP-CSGP General Purpose Ceramic Capacitors, size 1812, 10nF, +/-10%, 25VDC; Part Number: 885012210006; Isolation Resistance: >=10GOhm; Ceramic Type: X7R; Technical Reference: X7R1812103K025DFCT10000; ComponentLink1Description: Manufacturer; ComponentLink1URL: http://www.we-online.de; ComponentLink2Description: Datasheet; ComponentLink2URL: https://katalog.we-online.com/pbs/datasheet/885012210006.pdf; Operating Temperature: -55 to +125degC; Packaging: Tape and Reel; Publisher: Wurth Elektronik; Rated Voltage: 25VDC; Published Date: August 2019; Capacitance Tolerance: +/-10%; Dissipation Factor: =<3.5%; Height: 1.25mm +/-0.10mm; Mounting Technology: SMD; Size: 1812; Capacitance: 10nF
footprint WCAP-CSGP_1812_H=1.25mm
pins: 1, 2

## 885012210007
designator C?, comment 47nF, 25V
WCAP-CSGP General Purpose Ceramic Capacitors, size 1812, 47nF, +/-10%, 25VDC; Part Number: 885012210007; Isolation Resistance: >=10GOhm; Ceramic Type: X7R; Technical Reference: X7R1812473K025DFCT10000; ComponentLink1Description: Manufacturer; ComponentLink1URL: http://www.we-online.de; ComponentLink2Description: Datasheet; ComponentLink2URL: https://katalog.we-online.com/pbs/datasheet/885012210007.pdf; Operating Temperature: -55 to +125degC; Packaging: Tape and Reel; Publisher: Wurth Elektronik; Rated Voltage: 25VDC; Published Date: August 2019; Capacitance Tolerance: +/-10%; Dissipation Factor: =<3.5%; Height: 1.25mm +/-0.10mm; Mounting Technology: SMD; Size: 1812; Capacitance: 47nF
footprint WCAP-CSGP_1812_H=1.25mm
pins: 1, 2

## 885012210008
designator C?, comment 100nF, 25V
WCAP-CSGP General Purpose Ceramic Capacitors, size 1812, 100nF, +/-10%, 25VDC; Part Number: 885012210008; Isolation Resistance: >=5GOhm; Ceramic Type: X7R; Technical Reference: X7R1812104K025DFCT10000; ComponentLink1Description: Manufacturer; ComponentLink1URL: http://www.we-online.de; ComponentLink2Description: Datasheet; ComponentLink2URL: https://katalog.we-online.com/pbs/datasheet/885012210008.pdf; Operating Temperature: -55 to +125degC; Packaging: Tape and Reel; Publisher: Wurth Elektronik; Rated Voltage: 25VDC; Published Date: August 2019; Capacitance Tolerance: +/-10%; Dissipation Factor: =<3.5%; Height: 1.25mm +/-0.10mm; Mounting Technology: SMD; Size: 1812; Capacitance: 100nF
footprint WCAP-CSGP_1812_H=1.25mm
pins: 1, 2

## 885012210009
designator C?, comment 330nF, 25V
WCAP-CSGP General Purpose Ceramic Capacitors, size 1812, 330nF, +/-10%, 25VDC; Part Number: 885012210009; Isolation Resistance: >=1.5GOhm; Ceramic Type: X7R; Technical Reference: X7R1812334K025DFCT10000; ComponentLink1Description: Manufacturer; ComponentLink1URL: http://www.we-online.de; ComponentLink2Description: Datasheet; ComponentLink2URL: https://katalog.we-online.com/pbs/datasheet/885012210009.pdf; Operating Temperature: -55 to +125degC; Packaging: Tape and Reel; Publisher: Wurth Elektronik; Rated Voltage: 25VDC; Published Date: August 2019; Capacitance Tolerance: +/-10%; Dissipation Factor: =<3.5%; Height: 1.25mm +/-0.10mm; Mounting Technology: SMD; Size: 1812; Capacitance: 330nF
footprint WCAP-CSGP_1812_H=1.25mm
pins: 1, 2

## 885012210010
designator C?, comment 470nF, 25V
WCAP-CSGP General Purpose Ceramic Capacitors, size 1812, 470nF, +/-10%, 25VDC; Part Number: 885012210010; Isolation Resistance: >=1.1GOhm; Ceramic Type: X7R; Technical Reference: X7R1812474K025DFCT10000; ComponentLink1Description: Manufacturer; ComponentLink1URL: http://www.we-online.de; ComponentLink2Description: Datasheet; ComponentLink2URL: https://katalog.we-online.com/pbs/datasheet/885012210010.pdf; Operating Temperature: -55 to +125degC; Packaging: Tape and Reel; Publisher: Wurth Elektronik; Rated Voltage: 25VDC; Published Date: August 2019; Capacitance Tolerance: +/-10%; Dissipation Factor: =<3.5%; Height: 1.25mm +/-0.10mm; Mounting Technology: SMD; Size: 1812; Capacitance: 470nF
footprint WCAP-CSGP_1812_H=1.25mm
pins: 1, 2

## 885012210011
designator C?, comment 680nF, 25V
WCAP-CSGP General Purpose Ceramic Capacitors, size 1812, 680nF, +/-10%, 25VDC; Part Number: 885012210011; Isolation Resistance: >=0.7GOhm; Ceramic Type: X7R; Technical Reference: X7R1812684K025DFCT10000; ComponentLink1Description: Manufacturer; ComponentLink1URL: http://www.we-online.de; ComponentLink2Description: Datasheet; ComponentLink2URL: https://katalog.we-online.com/pbs/datasheet/885012210011.pdf; Operating Temperature: -55 to +125degC; Packaging: Tape and Reel; Publisher: Wurth Elektronik; Rated Voltage: 25VDC; Published Date: August 2019; Capacitance Tolerance: +/-10%; Dissipation Factor: =<3.5%; Height: 1.25mm +/-0.10mm; Mounting Technology: SMD; Size: 1812; Capacitance: 680nF
footprint WCAP-CSGP_1812_H=1.25mm
pins: 1, 2

## 885012210012
designator C?, comment 1uF, 25V
WCAP-CSGP General Purpose Ceramic Capacitors, size 1812, 1uF, +/-10%, 25VDC; Part Number: 885012210012; Isolation Resistance: >=0.5GOhm; Ceramic Type: X7R; Technical Reference: X7R1812105K025DFCT10000; ComponentLink1Description: Manufacturer; ComponentLink1URL: http://www.we-online.de; ComponentLink2Description: Datasheet; ComponentLink2URL: https://katalog.we-online.com/pbs/datasheet/885012210012.pdf; Operating Temperature: -55 to +125degC; Packaging: Tape and Reel; Publisher: Wurth Elektronik; Rated Voltage: 25VDC; Published Date: August 2019; Capacitance Tolerance: +/-10%; Dissipation Factor: =<3.5%; Height: 1.25mm +/-0.10mm; Mounting Technology: SMD; Size: 1812; Capacitance: 1uF
footprint WCAP-CSGP_1812_H=1.25mm
pins: 1, 2

## 885012210013
designator C?, comment 1nF, 50V
WCAP-CSGP General Purpose Ceramic Capacitors, size 1812, 1nF, +/-10%, 50VDC; Part Number: 885012210013; Isolation Resistance: >=10GOhm; Ceramic Type: X7R; Technical Reference: X7R1812102K050DFCT10000; ComponentLink1Description: Manufacturer; ComponentLink1URL: http://www.we-online.de; ComponentLink2Description: Datasheet; ComponentLink2URL: https://katalog.we-online.com/pbs/datasheet/885012210013.pdf; Operating Temperature: -55 to +125degC; Packaging: Tape and Reel; Publisher: Wurth Elektronik; Rated Voltage: 50VDC; Published Date: August 2019; Capacitance Tolerance: +/-10%; Dissipation Factor: =<2.5%; Height: 1.25mm +/-0.10mm; Mounting Technology: SMD; Size: 1812; Capacitance: 1nF
footprint WCAP-CSGP_1812_H=1.25mm
pins: 1, 2

## 885012210014
designator C?, comment 1.5nF, 50V
WCAP-CSGP General Purpose Ceramic Capacitors, size 1812, 1.5nF, +/-10%, 50VDC; Part Number: 885012210014; Isolation Resistance: >=10GOhm; Ceramic Type: X7R; Technical Reference: X7R1812152K050DFCT10000; ComponentLink1Description: Manufacturer; ComponentLink1URL: http://www.we-online.de; ComponentLink2Description: Datasheet; ComponentLink2URL: https://katalog.we-online.com/pbs/datasheet/885012210014.pdf; Operating Temperature: -55 to +125degC; Packaging: Tape and Reel; Publisher: Wurth Elektronik; Rated Voltage: 50VDC; Published Date: August 2019; Capacitance Tolerance: +/-10%; Dissipation Factor: =<2.5%; Height: 1.25mm +/-0.10mm; Mounting Technology: SMD; Size: 1812; Capacitance: 1.5nF
footprint WCAP-CSGP_1812_H=1.25mm
pins: 1, 2

## 885012210015
designator C?, comment 2.2nF, 50V
WCAP-CSGP General Purpose Ceramic Capacitors, size 1812, 2.2nF, +/-10%, 50VDC; Part Number: 885012210015; Isolation Resistance: >=10GOhm; Ceramic Type: X7R; Technical Reference: X7R1812222K050DFCT10000; ComponentLink1Description: Manufacturer; ComponentLink1URL: http://www.we-online.de; ComponentLink2Description: Datasheet; ComponentLink2URL: https://katalog.we-online.com/pbs/datasheet/885012210015.pdf; Operating Temperature: -55 to +125degC; Packaging: Tape and Reel; Publisher: Wurth Elektronik; Rated Voltage: 50VDC; Published Date: August 2019; Capacitance Tolerance: +/-10%; Dissipation Factor: =<2.5%; Height: 1.25mm +/-0.10mm; Mounting Technology: SMD; Size: 1812; Capacitance: 2.2nF
footprint WCAP-CSGP_1812_H=1.25mm
pins: 1, 2

## 885012210016
designator C?, comment 3.3nF, 50V
WCAP-CSGP General Purpose Ceramic Capacitors, size 1812, 3.3nF, +/-10%, 50VDC; Part Number: 885012210016; Isolation Resistance: >=10GOhm; Ceramic Type: X7R; Technical Reference: X7R1812332K050DFCT10000; ComponentLink1Description: Manufacturer; ComponentLink1URL: http://www.we-online.de; ComponentLink2Description: Datasheet; ComponentLink2URL: https://katalog.we-online.com/pbs/datasheet/885012210016.pdf; Operating Temperature: -55 to +125degC; Packaging: Tape and Reel; Publisher: Wurth Elektronik; Rated Voltage: 50VDC; Published Date: August 2019; Capacitance Tolerance: +/-10%; Dissipation Factor: =<2.5%; Height: 1.25mm +/-0.10mm; Mounting Technology: SMD; Size: 1812; Capacitance: 3.3nF
footprint WCAP-CSGP_1812_H=1.25mm
pins: 1, 2

## 885012210017
designator C?, comment 4.7nF, 50V
WCAP-CSGP General Purpose Ceramic Capacitors, size 1812, 4.7nF, +/-10%, 50VDC; Part Number: 885012210017; Isolation Resistance: >=10GOhm; Ceramic Type: X7R; Technical Reference: X7R1812472K050DFCT10000; ComponentLink1Description: Manufacturer; ComponentLink1URL: http://www.we-online.de; ComponentLink2Description: Datasheet; ComponentLink2URL: https://katalog.we-online.com/pbs/datasheet/885012210017.pdf; Operating Temperature: -55 to +125degC; Packaging: Tape and Reel; Publisher: Wurth Elektronik; Rated Voltage: 50VDC; Published Date: August 2019; Capacitance Tolerance: +/-10%; Dissipation Factor: =<2.5%; Height: 1.25mm +/-0.10mm; Mounting Technology: SMD; Size: 1812; Capacitance: 4.7nF
footprint WCAP-CSGP_1812_H=1.25mm
pins: 1, 2

## 885012210018
designator C?, comment 6.8nF, 50V
WCAP-CSGP General Purpose Ceramic Capacitors, size 1812, 6.8nF, +/-10%, 50VDC; Part Number: 885012210018; Isolation Resistance: >=10GOhm; Ceramic Type: X7R; Technical Reference: X7R1812682K050DFCT10000; ComponentLink1Description: Manufacturer; ComponentLink1URL: http://www.we-online.de; ComponentLink2Description: Datasheet; ComponentLink2URL: https://katalog.we-online.com/pbs/datasheet/885012210018.pdf; Operating Temperature: -55 to +125degC; Packaging: Tape and Reel; Publisher: Wurth Elektronik; Rated Voltage: 50VDC; Published Date: August 2019; Capacitance Tolerance: +/-10%; Dissipation Factor: =<2.5%; Height: 1.25mm +/-0.10mm; Mounting Technology: SMD; Size: 1812; Capacitance: 6.8nF
footprint WCAP-CSGP_1812_H=1.25mm
pins: 1, 2

## 885012210019
designator C?, comment 10nF, 50V
WCAP-CSGP General Purpose Ceramic Capacitors, size 1812, 10nF, +/-10%, 50VDC; Part Number: 885012210019; Isolation Resistance: >=10GOhm; Ceramic Type: X7R; Technical Reference: X7R1812103K050DFCT10000; ComponentLink1Description: Manufacturer; ComponentLink1URL: http://www.we-online.de; ComponentLink2Description: Datasheet; ComponentLink2URL: https://katalog.we-online.com/pbs/datasheet/885012210019.pdf; Operating Temperature: -55 to +125degC; Packaging: Tape and Reel; Publisher: Wurth Elektronik; Rated Voltage: 50VDC; Published Date: August 2019; Capacitance Tolerance: +/-10%; Dissipation Factor: =<2.5%; Height: 1.25mm +/-0.10mm; Mounting Technology: SMD; Size: 1812; Capacitance: 10nF
footprint WCAP-CSGP_1812_H=1.25mm
pins: 1, 2

## 885012210020
designator C?, comment 15nF, 50V
WCAP-CSGP General Purpose Ceramic Capacitors, size 1812, 15nF, +/-10%, 50VDC; Part Number: 885012210020; Isolation Resistance: >=10GOhm; Ceramic Type: X7R; Technical Reference: X7R1812153K050DFCT10000; ComponentLink1Description: Manufacturer; ComponentLink1URL: http://www.we-online.de; ComponentLink2Description: Datasheet; ComponentLink2URL: https://katalog.we-online.com/pbs/datasheet/885012210020.pdf; Operating Temperature: -55 to +125degC; Packaging: Tape and Reel; Publisher: Wurth Elektronik; Rated Voltage: 50VDC; Published Date: August 2019; Capacitance Tolerance: +/-10%; Dissipation Factor: =<2.5%; Height: 1.25mm +/-0.10mm; Mounting Technology: SMD; Size: 1812; Capacitance: 15nF
footprint WCAP-CSGP_1812_H=1.25mm
pins: 1, 2